# Altium footprint library 0402.PcbLib: 1 footprints
Each footprint in its own frame and in the unit in brackets; x right, y up, seen from the top. Pads: shape width x height; smd on the part's side, far side on the other; paste and mask are expansions set on the pad; w line width, h text height; cw(c..) or ccw(c..) is an arc to the next point about the centre after c.
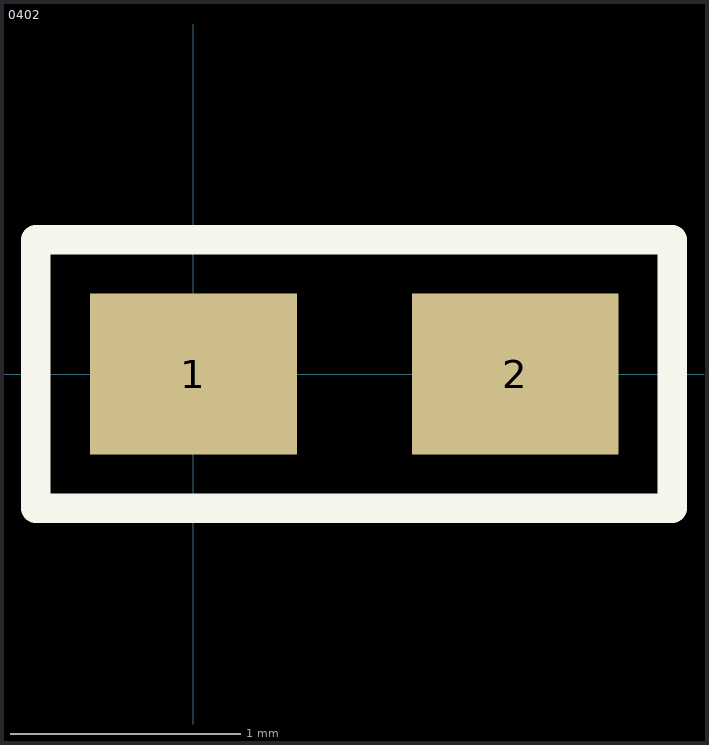
[diagram p0: the footprint, top view; thin cyan lines are the x and y axes]

## 0402 [mm]
pads (2):
  rect 0.9x0.7 smd: 1(0,0) 2(1.4,0)
Top Overlay:
  lines w0.127: -0.686,-0.584 2.083,-0.584 2.083,0.584 -0.686,0.584 -0.686,-0.584
3D body: height 0.5, standoff 0, extent 0.178,-0.267 1.194,0.267